# Altium integrated library Xilinx Virtex FPGA.IntLib: 587 symbols (part 4 of 4)
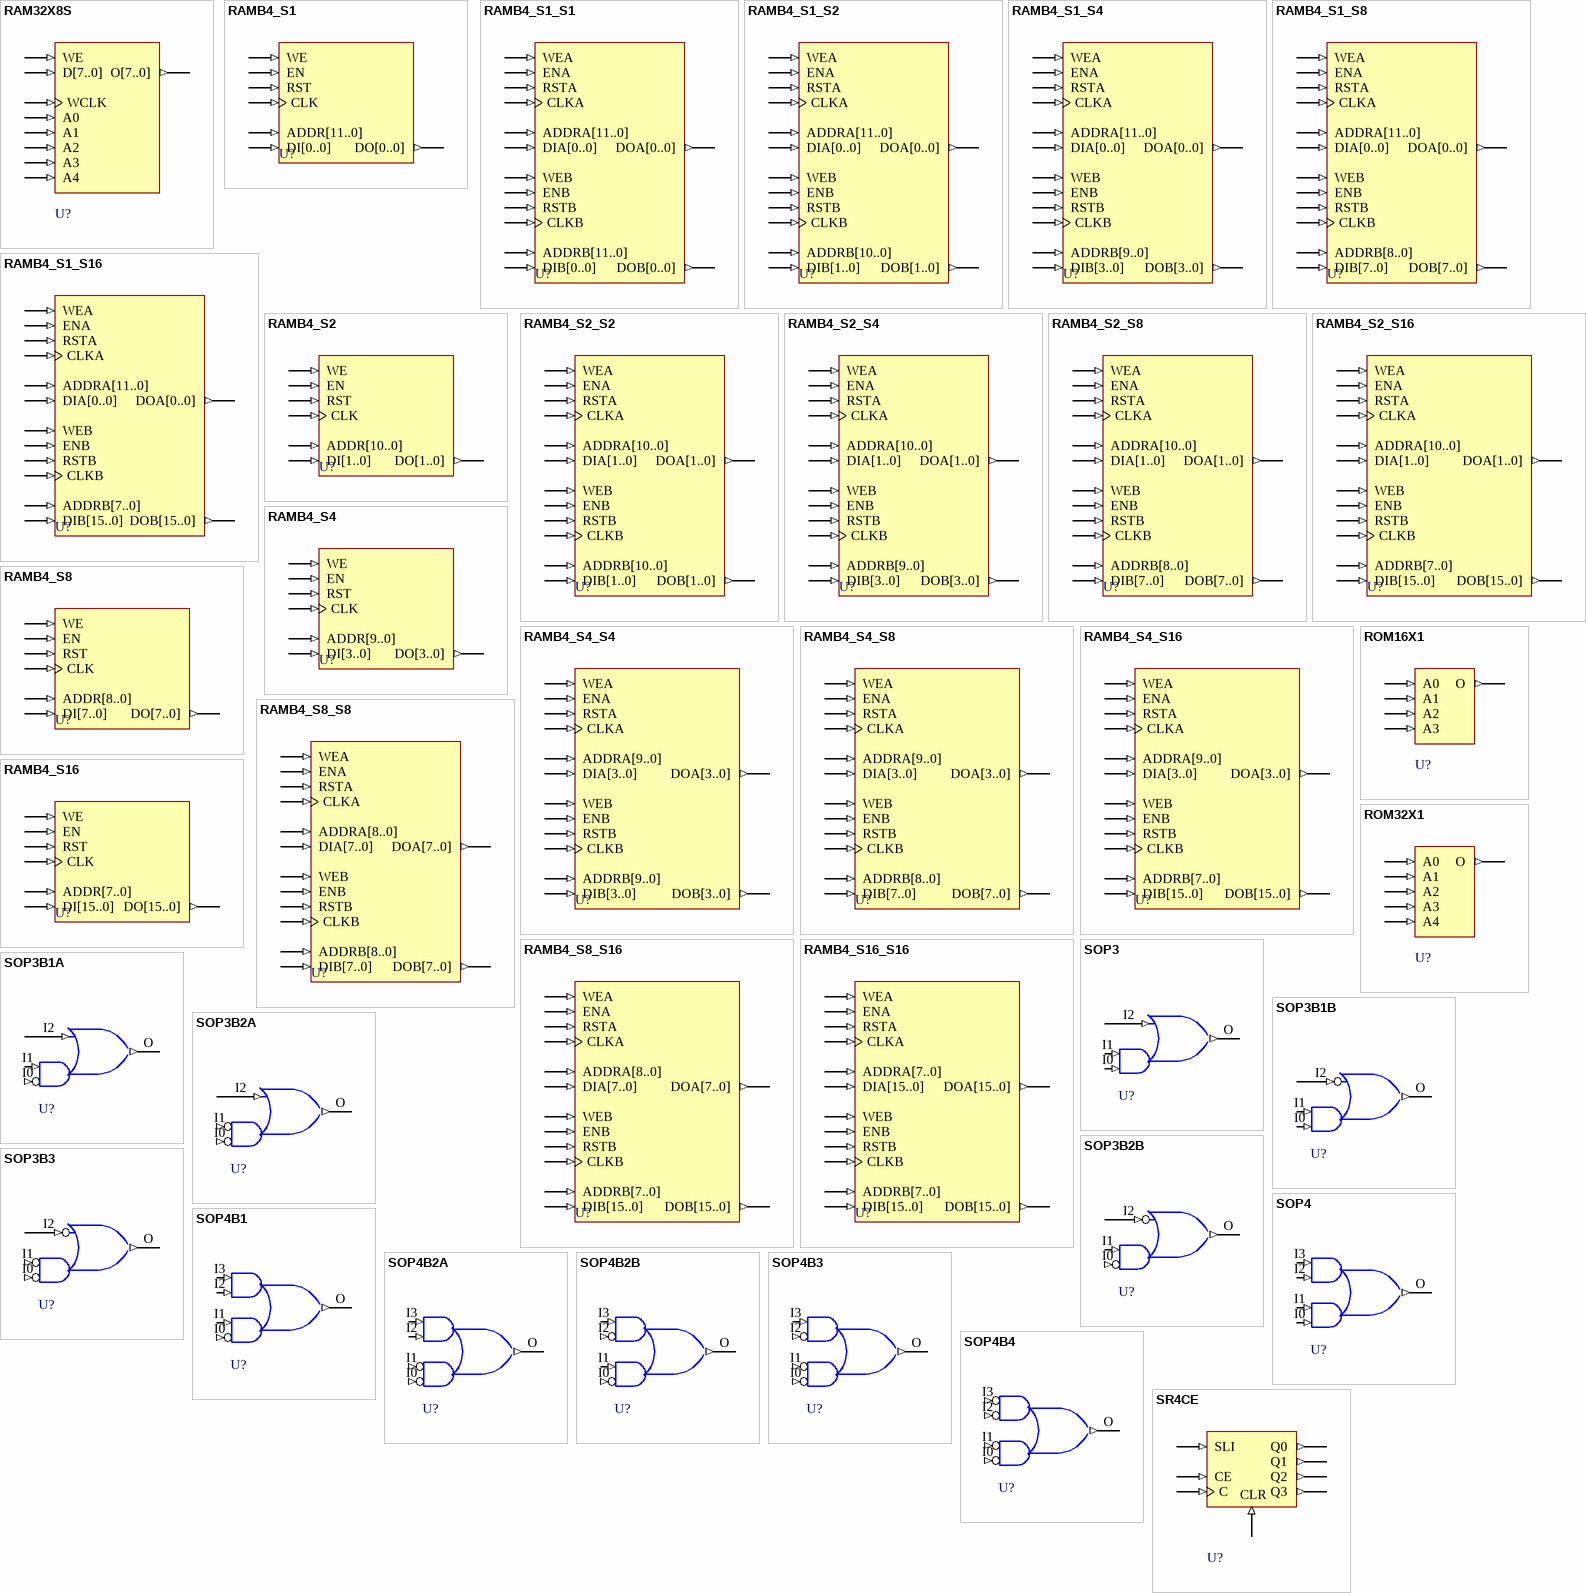
[diagram p18: symbols RAM32X8S to SR4CE]

## RAMB4_S16_S16
designator U?
4096-Bit Dual-Port Synchronous Block RAM with two 16-bit-wide Ports; FPGAVendor: Xilinx; Published: 15-Sep-2003; Publisher: Altium Limited; HelpURL: http://toolbox.xilinx.com/docsan/xilinx7/books/docs/lib/lib.pdf
pins: ADDRA[7..0] (in), ADDRB[7..0] (in), CLKA (in), CLKB (in), DIA[15..0] (in), DIB[15..0] (in), DOA[15..0] (out), DOB[15..0] (out), ENA (in), ENB (in), RSTA (in), RSTB (in), WEA (in), WEB (in)

## ROM16X1
designator U?
16-Deep by 1-Wide ROM; FPGAVendor: Xilinx; Published: 15-Sep-2003; Publisher: Altium Limited; HelpURL: http://toolbox.xilinx.com/docsan/xilinx7/books/docs/lib/lib.pdf
pins: A0 (in), A1 (in), A2 (in), A3 (in), O (out)

## ROM32X1
designator U?
32-Deep by 1-Wide ROM; FPGAVendor: Xilinx; Published: 15-Sep-2003; Publisher: Altium Limited; HelpURL: http://toolbox.xilinx.com/docsan/xilinx7/books/docs/lib/lib.pdf
pins: A0 (in), A1 (in), A2 (in), A3 (in), A4 (in), O (out)

## SOP3
designator U?
3-Input Sum-of-Products; FPGAVendor: Xilinx; Published: 15-Sep-2003; Publisher: Altium Limited; HelpURL: http://toolbox.xilinx.com/docsan/xilinx7/books/docs/lib/lib.pdf
pins: I0 (in), I1 (in), I2 (in), O (out)

## SOP3B1A
designator U?
3-Input Sum-of-Products with One AND Input Inverted; FPGAVendor: Xilinx; Published: 15-Sep-2003; Publisher: Altium Limited; HelpURL: http://toolbox.xilinx.com/docsan/xilinx7/books/docs/lib/lib.pdf
pins: I0 (in), I1 (in), I2 (in), O (out)

## SOP3B1B
designator U?
3-Input Sum-of-Products with One OR Input Inverted; FPGAVendor: Xilinx; Published: 15-Sep-2003; Publisher: Altium Limited; HelpURL: http://toolbox.xilinx.com/docsan/xilinx7/books/docs/lib/lib.pdf
pins: I0 (in), I1 (in), I2 (in), O (out)

## SOP3B2A
designator U?
3-Input Sum-of-Products with Two AND Inputs Inverted; FPGAVendor: Xilinx; Published: 15-Sep-2003; Publisher: Altium Limited; HelpURL: http://toolbox.xilinx.com/docsan/xilinx7/books/docs/lib/lib.pdf
pins: I0 (in), I1 (in), I2 (in), O (out)

## SOP3B2B
designator U?
3-Input Sum-of-Products with One OR and One AND Input Inverted; FPGAVendor: Xilinx; Published: 15-Sep-2003; Publisher: Altium Limited; HelpURL: http://toolbox.xilinx.com/docsan/xilinx7/books/docs/lib/lib.pdf
pins: I0 (in), I1 (in), I2 (in), O (out)

## SOP3B3
designator U?
3-Input Sum-of-Products with All Inputs Inverted; FPGAVendor: Xilinx; Published: 15-Sep-2003; Publisher: Altium Limited; HelpURL: http://toolbox.xilinx.com/docsan/xilinx7/books/docs/lib/lib.pdf
pins: I0 (in), I1 (in), I2 (in), O (out)

## SOP4
designator U?
4-Input Sum-of-Products; FPGAVendor: Xilinx; Published: 15-Sep-2003; Publisher: Altium Limited; HelpURL: http://toolbox.xilinx.com/docsan/xilinx7/books/docs/lib/lib.pdf
pins: I0 (in), I1 (in), I2 (in), I3 (in), O (out)

## SOP4B1
designator U?
4-Input Sum-of-Products with One AND Input Inverted; FPGAVendor: Xilinx; Published: 15-Sep-2003; Publisher: Altium Limited; HelpURL: http://toolbox.xilinx.com/docsan/xilinx7/books/docs/lib/lib.pdf
pins: I0 (in), I1 (in), I2 (in), I3 (in), O (out)

## SOP4B2A
designator U?
4-Input Sum-of-Products with Both Inputs on One AND Gate Inverted; FPGAVendor: Xilinx; Published: 15-Sep-2003; Publisher: Altium Limited; HelpURL: http://toolbox.xilinx.com/docsan/xilinx7/books/docs/lib/lib.pdf
pins: I0 (in), I1 (in), I2 (in), I3 (in), O (out)

## SOP4B2B
designator U?
4-Input Sum-of-Products with One AND Input on Each AND Gate Inverted; FPGAVendor: Xilinx; Published: 15-Sep-2003; Publisher: Altium Limited; HelpURL: http://toolbox.xilinx.com/docsan/xilinx7/books/docs/lib/lib.pdf
pins: I0 (in), I1 (in), I2 (in), I3 (in), O (out)

## SOP4B3
designator U?
4-Input Sum-of-Products with Three Inputs Inverted; FPGAVendor: Xilinx; Published: 15-Sep-2003; Publisher: Altium Limited; HelpURL: http://toolbox.xilinx.com/docsan/xilinx7/books/docs/lib/lib.pdf
pins: I0 (in), I1 (in), I2 (in), I3 (in), O (out)

## SOP4B4
designator U?
4-Input Sum-of-Products with All Inputs Inverted; FPGAVendor: Xilinx; Published: 15-Sep-2003; Publisher: Altium Limited; HelpURL: http://toolbox.xilinx.com/docsan/xilinx7/books/docs/lib/lib.pdf
pins: I0 (in), I1 (in), I2 (in), I3 (in), O (out)

## SR4CE
designator U?
4-Bit Serial-In Parallel-Out Shift Register with Clock Enable and Asynchronous Clear; FPGAVendor: Xilinx; Published: 15-Sep-2003; Publisher: Altium Limited; HelpURL: http://toolbox.xilinx.com/docsan/xilinx7/books/docs/lib/lib.pdf
pins: C (in), CE (in), CLR (in), Q0 (out), Q1 (out), Q2 (out), Q3 (out), SLI (in)

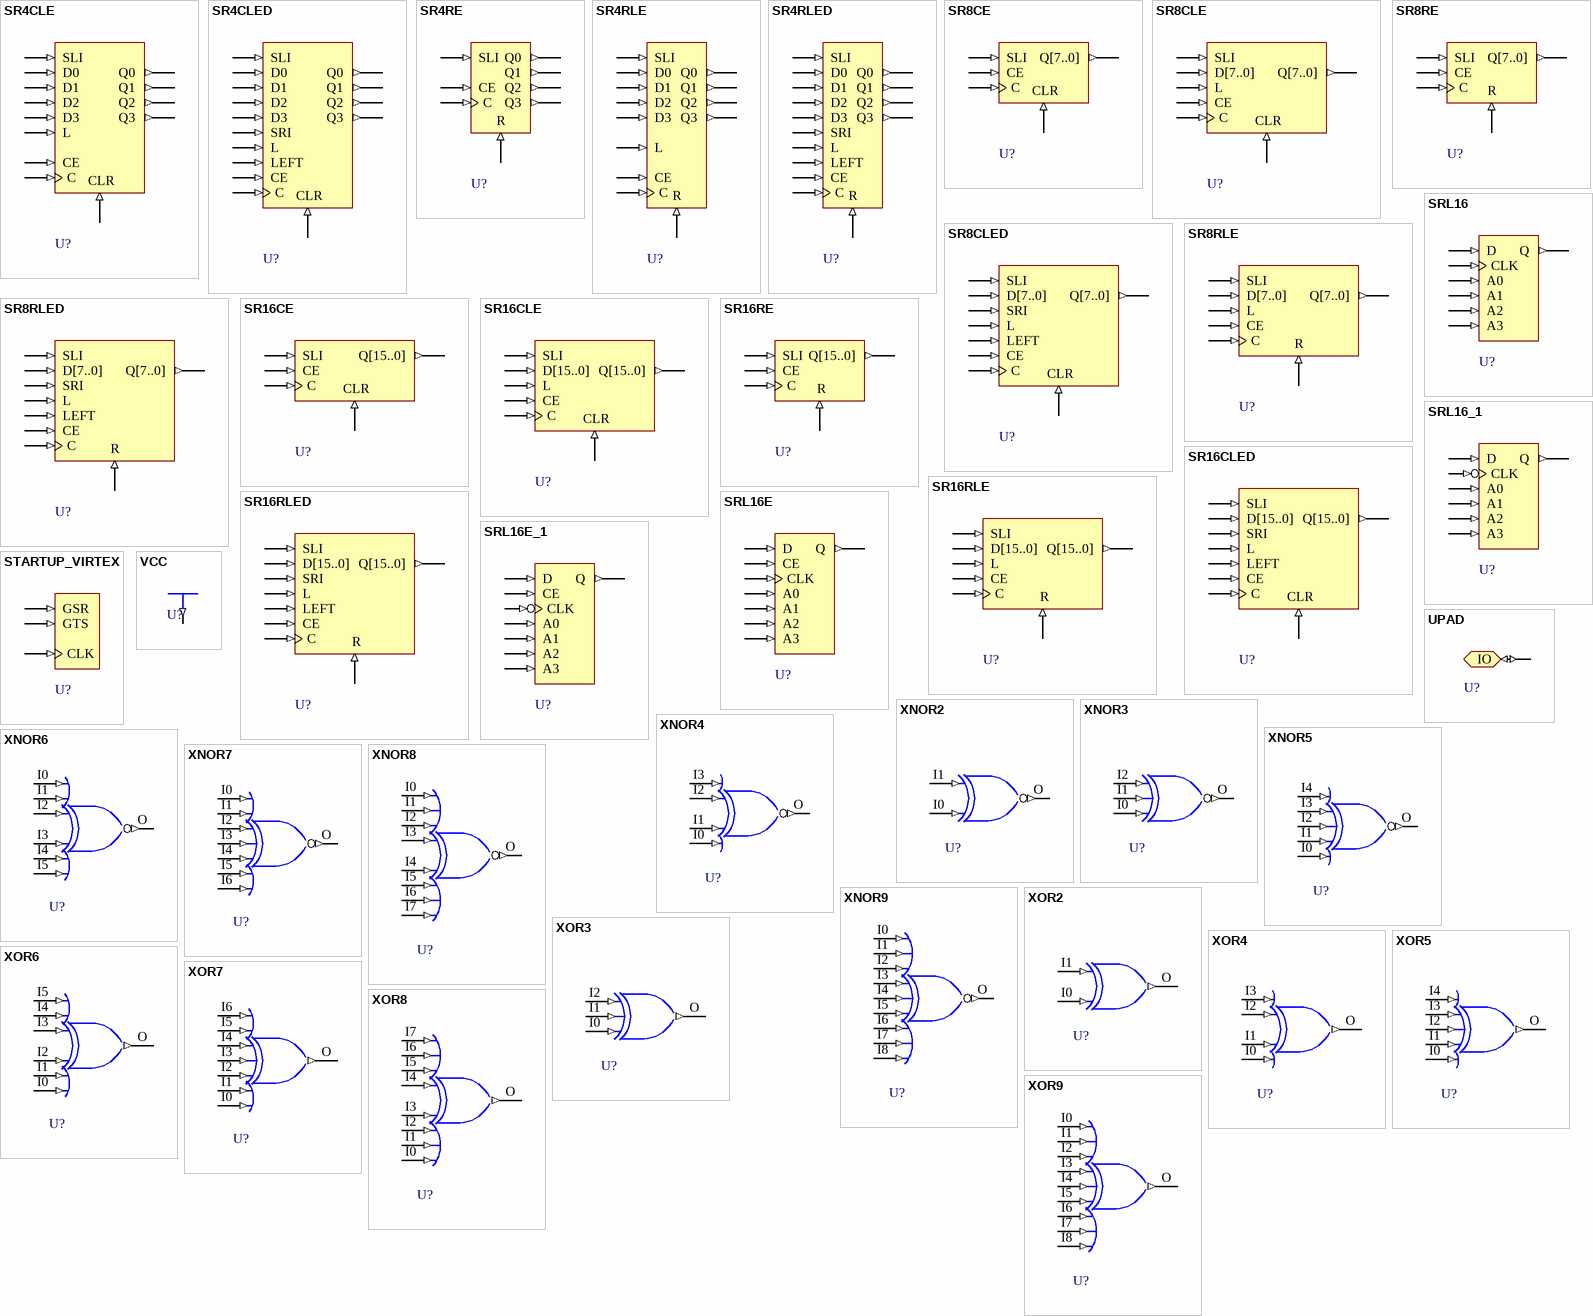
[diagram p14: symbols SR4CLE to XOR9]

## SR4CLE
designator U?
4-Bit Loadable Serial/Parallel-In Parallel-Out Shift Register with Clock Enable and Asynchronous Clear; FPGAVendor: Xilinx; Published: 15-Sep-2003; Publisher: Altium Limited; HelpURL: http://toolbox.xilinx.com/docsan/xilinx7/books/docs/lib/lib.pdf
pins: C (in), CE (in), CLR (in), D0 (in), D1 (in), D2 (in), D3 (in), L (in), Q0 (out), Q1 (out), Q2 (out), Q3 (out), SLI (in)

## SR4CLED
designator U?
4-Bit Shift Register with Clock Enable and Asynchronous Clear; FPGAVendor: Xilinx; Published: 15-Sep-2003; Publisher: Altium Limited; HelpURL: http://toolbox.xilinx.com/docsan/xilinx7/books/docs/lib/lib.pdf
pins: C (in), CE (in), CLR (in), D0 (in), D1 (in), D2 (in), D3 (in), L (in), LEFT (in), Q0 (out), Q1 (out), Q2 (out), Q3 (out), SLI (in), SRI (in)

## SR4RE
designator U?
4-Bit Serial-In Parallel-Out Shift Register with Clock Enable and Synchronous Reset; FPGAVendor: Xilinx; Published: 15-Sep-2003; Publisher: Altium Limited; HelpURL: http://toolbox.xilinx.com/docsan/xilinx7/books/docs/lib/lib.pdf
pins: C (in), CE (in), Q0 (out), Q1 (out), Q2 (out), Q3 (out), R (in), SLI (in)

## SR4RLE
designator U?
4-Bit Loadable Serial/Parallel-In Parallel-Out Shift Register with Clock Enable and Synchronous Reset; FPGAVendor: Xilinx; Published: 15-Sep-2003; Publisher: Altium Limited; HelpURL: http://toolbox.xilinx.com/docsan/xilinx7/books/docs/lib/lib.pdf
pins: C (in), CE (in), D0 (in), D1 (in), D2 (in), D3 (in), L (in), Q0 (out), Q1 (out), Q2 (out), Q3 (out), R (in), SLI (in)

## SR4RLED
designator U?
4-Bit Shift Register with Clock Enable and Synchronous Reset; FPGAVendor: Xilinx; Published: 15-Sep-2003; Publisher: Altium Limited; HelpURL: http://toolbox.xilinx.com/docsan/xilinx7/books/docs/lib/lib.pdf
pins: C (in), CE (in), D0 (in), D1 (in), D2 (in), D3 (in), L (in), LEFT (in), Q0 (out), Q1 (out), Q2 (out), Q3 (out), R (in), SLI (in), SRI (in)

## SR8CE
designator U?
8-Bit Serial-In Parallel-Out Shift Register with Clock Enable and Asynchronous Clear; FPGAVendor: Xilinx; Published: 15-Sep-2003; Publisher: Altium Limited; HelpURL: http://toolbox.xilinx.com/docsan/xilinx7/books/docs/lib/lib.pdf
pins: C (in), CE (in), CLR (in), Q[7..0] (out), SLI (in)

## SR8CLE
designator U?
8-Bit Loadable Serial/Parallel-In Parallel-Out Shift Register with Clock Enable and Asynchronous Clear; FPGAVendor: Xilinx; Published: 15-Sep-2003; Publisher: Altium Limited; HelpURL: http://toolbox.xilinx.com/docsan/xilinx7/books/docs/lib/lib.pdf
pins: C (in), CE (in), CLR (in), D[7..0] (in), L (in), Q[7..0] (out), SLI (in)

## SR8CLED
designator U?
8-Bit Shift Register with Clock Enable and Asynchronous Clear; FPGAVendor: Xilinx; Published: 15-Sep-2003; Publisher: Altium Limited; HelpURL: http://toolbox.xilinx.com/docsan/xilinx7/books/docs/lib/lib.pdf
pins: C (in), CE (in), CLR (in), D[7..0] (in), L (in), LEFT (in), Q[7..0] (out), SLI (in), SRI (in)

## SR8RE
designator U?
8-Bit Serial-In Parallel-Out Shift Register with Clock Enable and Synchronous Reset; FPGAVendor: Xilinx; Published: 15-Sep-2003; Publisher: Altium Limited; HelpURL: http://toolbox.xilinx.com/docsan/xilinx7/books/docs/lib/lib.pdf
pins: C (in), CE (in), Q[7..0] (out), R (in), SLI (in)

## SR8RLE
designator U?
8-Bit Loadable Serial/Parallel-In Parallel-Out Shift Register with Clock Enable and Synchronous Reset; FPGAVendor: Xilinx; Published: 15-Sep-2003; Publisher: Altium Limited; HelpURL: http://toolbox.xilinx.com/docsan/xilinx7/books/docs/lib/lib.pdf
pins: C (in), CE (in), D[7..0] (in), L (in), Q[7..0] (out), R (in), SLI (in)

## SR8RLED
designator U?
8-Bit Shift Register with Clock Enable and Synchronous Reset; FPGAVendor: Xilinx; Published: 15-Sep-2003; Publisher: Altium Limited; HelpURL: http://toolbox.xilinx.com/docsan/xilinx7/books/docs/lib/lib.pdf
pins: C (in), CE (in), D[7..0] (in), L (in), LEFT (in), Q[7..0] (out), R (in), SLI (in), SRI (in)

## SR16CE
designator U?
16-Bit Serial-In Parallel-Out Shift Register with Clock Enable and Asynchronous Clear; FPGAVendor: Xilinx; Published: 15-Sep-2003; Publisher: Altium Limited; HelpURL: http://toolbox.xilinx.com/docsan/xilinx7/books/docs/lib/lib.pdf
pins: C (in), CE (in), CLR (in), Q[15..0] (out), SLI (in)

## SR16CLE
designator U?
16-Bit Loadable Serial/Parallel-In Parallel-Out Shift Register with Clock Enable and Asynchronous Clear; FPGAVendor: Xilinx; Published: 15-Sep-2003; Publisher: Altium Limited; HelpURL: http://toolbox.xilinx.com/docsan/xilinx7/books/docs/lib/lib.pdf
pins: C (in), CE (in), CLR (in), D[15..0] (in), L (in), Q[15..0] (out), SLI (in)

## SR16CLED
designator U?
16-Bit Shift Register with Clock Enable and Asynchronous Clear; FPGAVendor: Xilinx; Published: 15-Sep-2003; Publisher: Altium Limited; HelpURL: http://toolbox.xilinx.com/docsan/xilinx7/books/docs/lib/lib.pdf
pins: C (in), CE (in), CLR (in), D[15..0] (in), L (in), LEFT (in), Q[15..0] (out), SLI (in), SRI (in)

## SR16RE
designator U?
16-Bit Serial-In Parallel-Out Shift Register with Clock Enable and Synchronous Reset; FPGAVendor: Xilinx; Published: 15-Sep-2003; Publisher: Altium Limited; HelpURL: http://toolbox.xilinx.com/docsan/xilinx7/books/docs/lib/lib.pdf
pins: C (in), CE (in), Q[15..0] (out), R (in), SLI (in)

## SR16RLE
designator U?
16-Bit Loadable Serial/Parallel-In Parallel-Out Shift Register with Clock Enable and Synchronous Reset; FPGAVendor: Xilinx; Published: 15-Sep-2003; Publisher: Altium Limited; HelpURL: http://toolbox.xilinx.com/docsan/xilinx7/books/docs/lib/lib.pdf
pins: C (in), CE (in), D[15..0] (in), L (in), Q[15..0] (out), R (in), SLI (in)

## SR16RLED
designator U?
16-Bit Shift Register with Clock Enable and Synchronous Reset; FPGAVendor: Xilinx; Published: 15-Sep-2003; Publisher: Altium Limited; HelpURL: http://toolbox.xilinx.com/docsan/xilinx7/books/docs/lib/lib.pdf
pins: C (in), CE (in), D[15..0] (in), L (in), LEFT (in), Q[15..0] (out), R (in), SLI (in), SRI (in)

## SRL16
designator U?
16-Bit Shift Register Look-Up-Table (LUT); FPGAVendor: Xilinx; Published: 15-Sep-2003; Publisher: Altium Limited; HelpURL: http://toolbox.xilinx.com/docsan/xilinx7/books/docs/lib/lib.pdf
pins: A0 (in), A1 (in), A2 (in), A3 (in), CLK (in), D (in), Q (out)

## SRL16_1
designator U?
16-Bit Shift Register Look-Up-Table (LUT) with Negative-Clock Edge; FPGAVendor: Xilinx; Published: 15-Sep-2003; Publisher: Altium Limited; HelpURL: http://toolbox.xilinx.com/docsan/xilinx7/books/docs/lib/lib.pdf
pins: A0 (in), A1 (in), A2 (in), A3 (in), CLK (in), D (in), Q (out)

## SRL16E
designator U?
16-Bit Shift Register Look-Up-Table (LUT) with Clock Enable; FPGAVendor: Xilinx; Published: 15-Sep-2003; Publisher: Altium Limited; HelpURL: http://toolbox.xilinx.com/docsan/xilinx7/books/docs/lib/lib.pdf
pins: A0 (in), A1 (in), A2 (in), A3 (in), CE (in), CLK (in), D (in), Q (out)

## SRL16E_1
designator U?
16-Bit Shift Register Look-Up-Table (LUT) with Negative-Edge Clock and Clock Enable; FPGAVendor: Xilinx; Published: 15-Sep-2003; Publisher: Altium Limited; HelpURL: http://toolbox.xilinx.com/docsan/xilinx7/books/docs/lib/lib.pdf
pins: A0 (in), A1 (in), A2 (in), A3 (in), CE (in), CLK (in), D (in), Q (out)

## STARTUP_VIRTEX
designator U?
Virtex User Interface to Global Clock, Reset, and 3-State Controls; FPGAVendor: Xilinx; Published: 15-Sep-2003; Publisher: Altium Limited; HelpURL: http://toolbox.xilinx.com/docsan/xilinx7/books/docs/lib/lib.pdf
pins: CLK (in), GSR (in), GTS (in)

## UPAD
designator U?
Connects the I/O Node of an IOB to the Internal PLD Circuit; FPGAVendor: Xilinx; Published: 15-Sep-2003; Publisher: Altium Limited; HelpURL: http://toolbox.xilinx.com/docsan/xilinx7/books/docs/lib/lib.pdf
pins: IO (io)

## VCC
designator U?
VCC-Connection Signal Tag; FPGAVendor: Xilinx; Published: 15-Sep-2003; Publisher: Altium Limited; HelpURL: http://toolbox.xilinx.com/docsan/xilinx7/books/docs/lib/lib.pdf
pins: P (out)

## XNOR2
designator U?
2-Input XNOR Gate; FPGAVendor: Xilinx; Published: 15-Sep-2003; Publisher: Altium Limited; HelpURL: http://toolbox.xilinx.com/docsan/xilinx7/books/docs/lib/lib.pdf
pins: I0 (in), I1 (in), O (out)

## XNOR3
designator U?
3-Input XNOR Gate; FPGAVendor: Xilinx; Published: 15-Sep-2003; Publisher: Altium Limited; HelpURL: http://toolbox.xilinx.com/docsan/xilinx7/books/docs/lib/lib.pdf
pins: I0 (in), I1 (in), I2 (in), O (out)

## XNOR4
designator U?
4-Input XNOR Gate; FPGAVendor: Xilinx; Published: 15-Sep-2003; Publisher: Altium Limited; HelpURL: http://toolbox.xilinx.com/docsan/xilinx7/books/docs/lib/lib.pdf
pins: I0 (in), I1 (in), I2 (in), I3 (in), O (out)

## XNOR5
designator U?
5-Input XNOR Gate; FPGAVendor: Xilinx; Published: 15-Sep-2003; Publisher: Altium Limited; HelpURL: http://toolbox.xilinx.com/docsan/xilinx7/books/docs/lib/lib.pdf
pins: I0 (in), I1 (in), I2 (in), I3 (in), I4 (in), O (out)

## XNOR6
designator U?
6-Input XNOR Gate; FPGAVendor: Xilinx; Published: 15-Sep-2003; Publisher: Altium Limited; HelpURL: http://toolbox.xilinx.com/docsan/xilinx7/books/docs/lib/lib.pdf
pins: I0 (in), I1 (in), I2 (in), I3 (in), I4 (in), I5 (in), O (out)

## XNOR7
designator U?
7-Input XNOR Gate; FPGAVendor: Xilinx; Published: 15-Sep-2003; Publisher: Altium Limited; HelpURL: http://toolbox.xilinx.com/docsan/xilinx7/books/docs/lib/lib.pdf
pins: I0 (in), I1 (in), I2 (in), I3 (in), I4 (in), I5 (in), I6 (in), O (out)

## XNOR8
designator U?
8-Input XNOR Gate; FPGAVendor: Xilinx; Published: 15-Sep-2003; Publisher: Altium Limited; HelpURL: http://toolbox.xilinx.com/docsan/xilinx7/books/docs/lib/lib.pdf
pins: I0 (in), I1 (in), I2 (in), I3 (in), I4 (in), I5 (in), I6 (in), I7 (in), O (out)

## XNOR9
designator U?
9-Input XNOR Gate; FPGAVendor: Xilinx; Published: 15-Sep-2003; Publisher: Altium Limited; HelpURL: http://toolbox.xilinx.com/docsan/xilinx7/books/docs/lib/lib.pdf
pins: I0 (in), I1 (in), I2 (in), I3 (in), I4 (in), I5 (in), I6 (in), I7 (in), I8 (in), O (out)

## XOR2
designator U?
2-Input XOR Gate; FPGAVendor: Xilinx; Published: 15-Sep-2003; Publisher: Altium Limited; HelpURL: http://toolbox.xilinx.com/docsan/xilinx7/books/docs/lib/lib.pdf
pins: I0 (in), I1 (in), O (out)

## XOR3
designator U?
3-Input XOR Gate; FPGAVendor: Xilinx; Published: 15-Sep-2003; Publisher: Altium Limited; HelpURL: http://toolbox.xilinx.com/docsan/xilinx7/books/docs/lib/lib.pdf
pins: I0 (in), I1 (in), I2 (in), O (out)

## XOR4
designator U?
4-Input XOR Gate; FPGAVendor: Xilinx; Published: 15-Sep-2003; Publisher: Altium Limited; HelpURL: http://toolbox.xilinx.com/docsan/xilinx7/books/docs/lib/lib.pdf
pins: I0 (in), I1 (in), I2 (in), I3 (in), O (out)

## XOR5
designator U?
5-Input XOR Gate; FPGAVendor: Xilinx; Published: 15-Sep-2003; Publisher: Altium Limited; HelpURL: http://toolbox.xilinx.com/docsan/xilinx7/books/docs/lib/lib.pdf
pins: I0 (in), I1 (in), I2 (in), I3 (in), I4 (in), O (out)

## XOR6
designator U?
6-Input XOR Gate; FPGAVendor: Xilinx; Published: 15-Sep-2003; Publisher: Altium Limited; HelpURL: http://toolbox.xilinx.com/docsan/xilinx7/books/docs/lib/lib.pdf
pins: I0 (in), I1 (in), I2 (in), I3 (in), I4 (in), I5 (in), O (out)

## XOR7
designator U?
7-Input XOR Gate; FPGAVendor: Xilinx; Published: 15-Sep-2003; Publisher: Altium Limited; HelpURL: http://toolbox.xilinx.com/docsan/xilinx7/books/docs/lib/lib.pdf
pins: I0 (in), I1 (in), I2 (in), I3 (in), I4 (in), I5 (in), I6 (in), O (out)

## XOR8
designator U?
8-Input XOR Gate; FPGAVendor: Xilinx; Published: 15-Sep-2003; Publisher: Altium Limited; HelpURL: http://toolbox.xilinx.com/docsan/xilinx7/books/docs/lib/lib.pdf
pins: I0 (in), I1 (in), I2 (in), I3 (in), I4 (in), I5 (in), I6 (in), I7 (in), O (out)

## XOR9
designator U?
9-Input XOR Gate; FPGAVendor: Xilinx; Published: 15-Sep-2003; Publisher: Altium Limited; HelpURL: http://toolbox.xilinx.com/docsan/xilinx7/books/docs/lib/lib.pdf
pins: I0 (in), I1 (in), I2 (in), I3 (in), I4 (in), I5 (in), I6 (in), I7 (in), I8 (in), O (out)

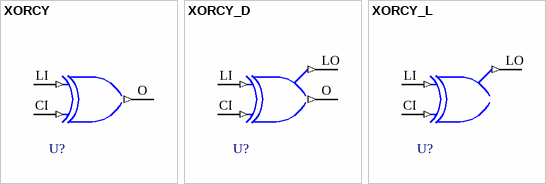
[diagram p15: symbols XORCY to XORCY_L]

## XORCY
designator U?
2-Input XOR Gate for Carry Logic with General Output; FPGAVendor: Xilinx; Published: 15-Sep-2003; Publisher: Altium Limited; HelpURL: http://toolbox.xilinx.com/docsan/xilinx7/books/docs/lib/lib.pdf
pins: CI (in), LI (in), O (out)

## XORCY_D
designator U?
2-Input XOR Gate for Carry Logic with Dual Output; FPGAVendor: Xilinx; Published: 15-Sep-2003; Publisher: Altium Limited; HelpURL: http://toolbox.xilinx.com/docsan/xilinx7/books/docs/lib/lib.pdf
pins: CI (in), LI (in), LO (out), O (out)

## XORCY_L
designator U?
2-Input XOR Gate for Carry Logic with Local Output; FPGAVendor: Xilinx; Published: 15-Sep-2003; Publisher: Altium Limited; HelpURL: http://toolbox.xilinx.com/docsan/xilinx7/books/docs/lib/lib.pdf
pins: CI (in), LI (in), LO (out)